# Altium footprint library Environment Sensors.PcbLib: 1 footprints
Each footprint in its own frame and in the unit in brackets; x right, y up, seen from the top. Pads: shape width x height; smd on the part's side, far side on the other; paste and mask are expansions set on the pad; w line width, h text height; cw(c..) or ccw(c..) is an arc to the next point about the centre after c.
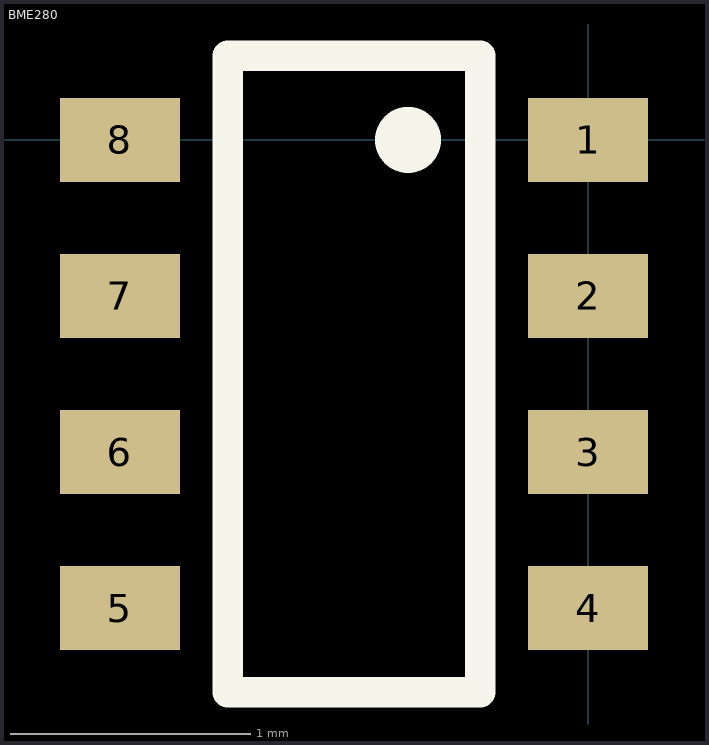
[diagram p0: the footprint, top view; thin cyan lines are the x and y axes]

## BME280 [mm] "Humidity Temperature Sensor 0 ~ 100% RH I²C, SPI ±3% 1s Surface Mount"
pads (8):
  rect 0.5x0.35 smd: 1(0,0) 2(0,-0.65) 3(0,-1.3) 4(0,-1.95) 5(-1.95,-1.95) 6(-1.95,-1.3) 7(-1.95,-0.65) 8(-1.95,0)
Top Overlay:
  circle w0.254: c-0.75,0 r0.01
  lines w0.127: -1.5,-2.3 -0.45,-2.3 -0.45,0.35 -1.5,0.35 -1.5,-2.3
3D body "User Library-Bosch_BME280.step": height 0.93, standoff 0, extent -2.23,-2.23 0.27,0.27